# EAGLE library part DALC208SC6 (library IC)
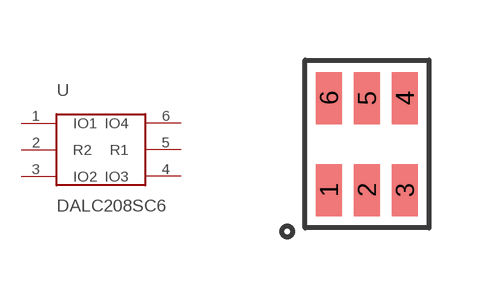
[diagram p44: symbol with the pads of SOT23-6L; footprint SOT23-6L]

Designator prefix U

## DALC208SC6  [SOT23-6L]
1  IO1
2  R2
3  IO2
4  IO3
5  R1
6  IO4

## Footprint SOT23-6L (pad centres in mm)
smd 0.65 x 1.3: 1 0.03,-1.12; 2 0.98,-1.12; 3 1.93,-1.12; 4 1.93,1.18; 5 0.98,1.18; 6 0.03,1.18